# Altium schematic symbol library ADXL357.SchLib: 2 symbols
Pins are listed as number, name and electrical type; pins without a type are passive.

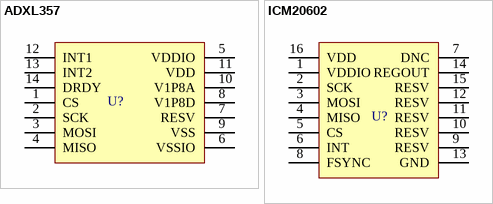
[diagram p0: symbols ADXL357 to ICM20602]

## ADXL357
designator U?  (value not drawn)
footprint ADXL357
pins: 1 CS, 2 SCK, 3 MOSI, 4 MISO, 5 VDDIO, 6 VSSIO, 7 RESV, 8 V1P8D, 9 VSS, 10 V1P8A, 11 VDD, 12 INT1, 13 INT2, 14 DRDY

## ICM20602
designator U?  (value not drawn)
footprint ICM20602
pins: 1 VDDIO, 2 SCK, 3 MOSI, 4 MISO, 5 CS, 6 INT, 7 DNC, 8 FSYNC, 9 RESV, 10 RESV, 11 RESV, 12 RESV, 13 GND, 14 REGOUT, 15 RESV, 16 VDD